# Altium integrated library Sensors.IntLib: 8 symbols
Pins are listed as number, name and electrical type; pins without a type are passive.

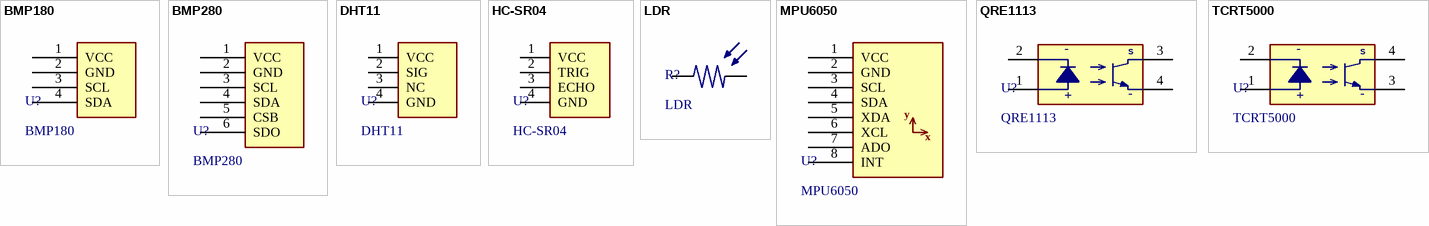
[diagram p0: symbols BMP180 to TCRT5000]

## BMP180
designator U?
SENSOR ATMOSPHERIC PRESSURE/TEMPERATURE
footprint BMP180
pins: 1 VCC, 2 GND, 3 SCL, 4 SDA

## BMP280
designator U?
SENSOR ATMOSPHERIC PRESSURE/TEMPERATURE/ALTITUDE
footprint BMP280 (SENSOR ATMOSPHERIC PRESSURE/TEMPERATURE/ALTITUDE)
pins: 1 VCC, 2 GND, 3 SCL, 4 SDA, 5 CSB, 6 SDO

## DHT11
designator U?
SENSOR HUMIDITY/TEMPERATURE; Digikey PN: 1528-1228-ND
footprint DHT11 (SENSOR HUMIDITY/TEMPERATURE)
pins: 1 VCC, 2 SIG, 3 NC, 4 GND

## HC-SR04
designator U?
ULTRASONIC SENSOR 400CM; Digikey PN: 1568-1421-ND; Mouser PN: 375-HC-SR04
footprint HC-SR04 (ULTRASONIC SENSOR 400CM)
pins: 1 VCC, 2 TRIG, 3 ECHO, 4 GND

## LDR
designator R?
LIGHT DEPENDEND RESISTOR/PHOTORESITOR; Digikey PN: PDV-P8107-ND
footprint LDR (LIGHT DEPENDEND RESISTOR/PHOTORESITOR 3mm)
pins: 1, 2

## MPU6050
designator U?
IMU ACCEL/GYRO 3-AXIS I2C; ComponentLink1Description: Datasheet; ComponentLink1URL: https://invensense.tdk.com/wp-content/uploads/2015/02/MPU-6000-Datasheet1.pdf
footprint MPU6050 (IMU ACCEL/GYRO 3-AXIS I2C)
pins: 1 VCC, 2 GND, 3 SCL, 4 SDA, 5 XDA, 6 XCL, 7 ADO, 8 INT
text: y; x

## QRE1113
designator U?
REFLECTIVE OPTICAL SENSOR SMD; Digikey PN: 512-QRE1113GR; ComponentLink1Description: Datasheet; ComponentLink1URL: https://br.mouser.com/datasheet/2/308/QRE1113_D-1814544.pdf; JLCPCB PN: C232862
footprint QRE1113 (REFLECTIVE OPTICAL SENSOR SMD)
pins: 1 VCC, 2 GND, 3 SIGNAL, 4 GND
text: -; S; +

## TCRT5000
designator U?
REFLECTIVE OPTICAL SENSOR PTH; Mouser PN: 782-TCRT5000; ComponentLink1Description: Datasheet; ComponentLink1URL: https://br.mouser.com/datasheet/2/427/tcrt5000-1767618.pdf; JLCPCB PN: C2984661
footprint TCRT5000 (REFLECTIVE OPTICAL SENSOR PTH)
pins: 1 VCC, 2 GND, 3 GND, 4 SIGNAL
text: -; S; +